# Altium footprint library tuan.PcbLib: 10 footprints
Each footprint in its own frame and in the unit in brackets; x right, y up, seen from the top. Pads: shape width x height; smd on the part's side, far side on the other; paste and mask are expansions set on the pad; w line width, h text height; cw(c..) or ccw(c..) is an arc to the next point about the centre after c.
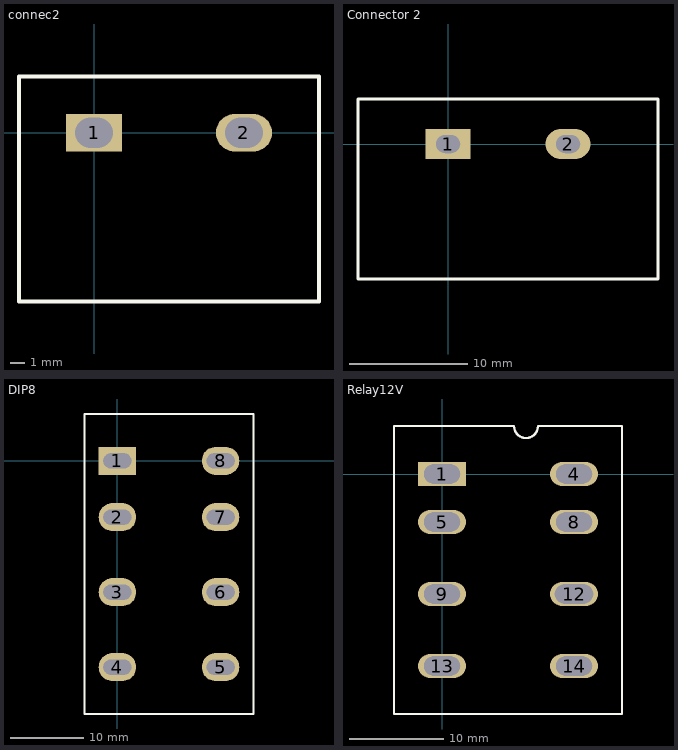
[diagram p0: the footprints below, top view; thin cyan lines are the x and y axes]

## connec2 [mil] "connec2"
pads (2):
  rect 150x100 hole 80 slot 100 at 0 deg: 1(0,0)
  oval 150x100 hole 80 slot 100 at 0 deg: 2(400,0)
Top Overlay:
  lines w10: -200,-450 -200,150 600,150 600,-450 -200,-450

## Connector 2 [mil] "Connector 2"
pads (2):
  rect 150x100 hole 60 slot 80 at 0 deg: 1(0,0)
  oval 150x100 hole 60 slot 80 at 0 deg: 2(400,0)
Top Overlay:
  lines w10: 175,150 100,150 -300,150 -300,-450 700,-450 700,150 150,150 ; 150,150 200,150 ; 150,150 200,150 ; 150,150 200,150

## DIP8 [mil] "relay 12v"
pads (8):
  rect 200x150 hole 80 slot 150 at 0 deg: 1(0,0)
  oval 200x150 hole 80 slot 150 at 0 deg: 2(0,-300) 3(0,-700) 4(0,-1100) 5(550,-1100) 6(550,-700) 7(550,-300) 8(550,0)
Top Overlay:
  lines w10: 325,250 725,250 725,-1350 -175,-1350 -175,250 350,250

## PCBComponent_1 [mil]

## PCBComponent_1 - duplicate [mil]

## PCBComponent_1 - duplicate1 [mil]

## PCBComponent_1 - duplicate2 [mil]

## PCBComponent_1 - duplicate3 [mil]

## PCBComponent_1 - duplicate4 [mil]

## Relay12V [mil] "Relay12V"
pads (8):
  rect 200x100 hole 80 slot 150 at 0 deg: 1(0,0)
  oval 200x100 hole 80 slot 150 at 0 deg: 4(550,0) 5(0,-200) 8(550,-200) 9(0,-500) 13(0,-800) 14(550,-800)
  oval 200x100 hole 80 slot 160 at 0 deg: 12(550,-500)
Top Overlay:
  lines w10: 125,200 300,200 ; 300,200 ccw(c350,200) 400,200 750,200 750,-1000 -100,-1000 -200,-1000 -200,200 -100,200 -43.75,200 300,200